# EAGLE library part MAX9814 (library AKA_lib)
MAX9814 Microphone Amplifier with AGC and Low-Noise Microphone Bias http://datasheets.maximintegrated.com/en/ds/MAX9814.pdf ♦ Automatic Gain Control (AGC) ♦ Three Gain Settings (40dB, 50dB, 60dB) ♦ Programmable Attack Time ♦ Programmable Attack and Release Ratio ♦ 2.7V to 5.5V Supply Voltage Range ♦ Low Input-Referred Noise Density of 30nV/√Hz ♦ Low THD: 0.04% (typ) ♦ Low-Power Shutdown Mode ♦ Internal Low-Noise Microphone Bias, 2V ♦ Available in the Space-Saving, 14-Pin TDFN (3mm x 3mm) Package ♦ -40°C to +85°C Extended Temperature Range General Description The MAX9814 is a low-cost, high-quality microphone amplifier with automatic gain control (AGC) and lownoise microphone bias. The device features a low-noise preamplifier, variable gain amplifier (VGA), output amplifier, microphone-bias-voltage generator and AGC control circuitry. The low-noise preamplifier has a fixed 12dB gain, while the VGA gain automatically adjusts from 20dB to 0dB, depending on the output voltage and the AGC threshold. The output amplifier offers selectable gains of 8dB, 18dB, and 28dB. With no compression, the cascade of the amplifiers results in an overall gain of 40dB, 50dB, or 60dB. A trilevel digital input programs the output amplifier gain. An external resistive divider controls the AGC threshold and a single capacitor programs the attack/release times. A trilevel digital input programs the ratio of attack-to-release time. The hold time of the AGC is fixed at 30ms. The low-noise microphone-biasvoltage generator can bias most electret microphones. The MAX9814 is available in the space-saving, 14-pin TDFN package. This device is specified over the -40°C to +85°C extended temperature range.
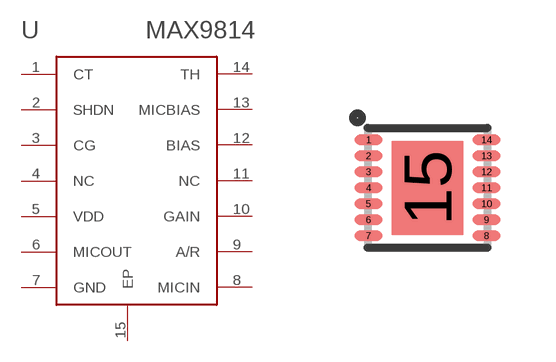
[diagram p12: symbol with the pads of 14-TDFN; footprint 14-TDFN]

Designator prefix U

## MAX9814  [14-TDFN]
1  CT
2  SHDN
3  CG
4  NC  pwr
5  VDD  pwr
6  MICOUT  out
7  GND  pwr
8  MICIN  in
9  A/R
10  GAIN
11  NC  pwr
12  BIAS
13  MICBIAS
14  TH
15  EP  pwr

## Footprint 14-TDFN (pad centres in mm)
smd 0.7 x 0.25: 1 -1.475,1.2; 2 -1.475,0.8; 3 -1.475,0.4; 4 -1.475,0; 5 -1.475,-0.4; 6 -1.475,-0.8; 7 -1.475,-1.2; 8 1.475,-1.2; 9 1.475,-0.8; 10 1.475,-0.4; 11 1.475,0; 12 1.475,0.4; 13 1.475,0.8; 14 1.475,1.2
smd 1.78 x 2.35: 15 0,0